# Altium footprint library MLACHT_Z.PCBLIB: 150 footprints (part 1 of 10)
Each footprint in its own frame and in the unit in brackets; x right, y up, seen from the top. Pads: shape width x height; smd on the part's side, far side on the other; paste and mask are expansions set on the pad; w line width, h text height; cw(c..) or ccw(c..) is an arc to the next point about the centre after c.
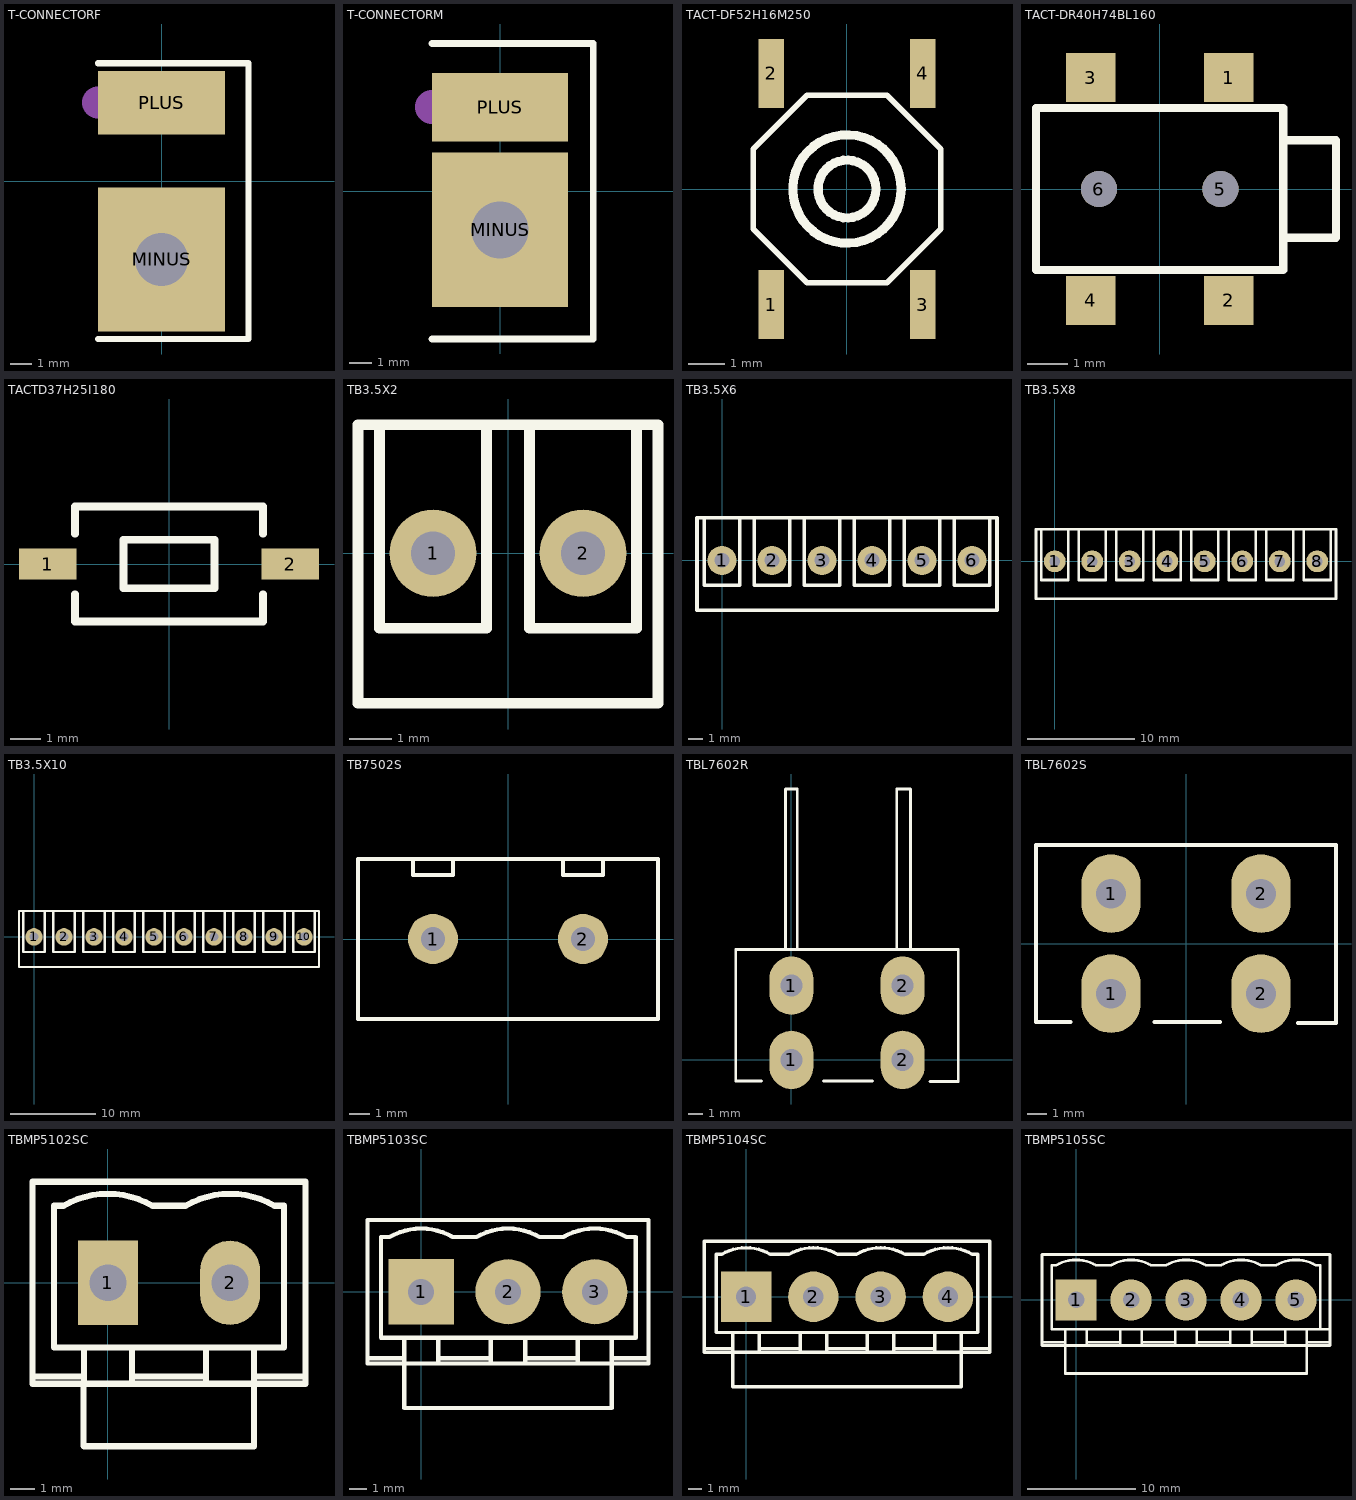
[diagram p0: the footprints below, top view; thin cyan lines are the x and y axes]

## T-CONNECTORF [mm]
pads (2):
  rect 6x6.8 hole 2.5: MINUS(0,-3.7)
  rect 6x3 all layers, no hole: PLUS(0,3.7)
TopOverlay:
  lines w0.3: -3,-7.45 4.1,-7.45 4.1,5.55 -3,5.55
Mill:
  lines w1.5: -3,3.7 0.5,3.7
3D body: height 1.5, standoff 0, extent -12.85,-6.1 2.35,-1.4
3D body: height 4, standoff -2, extent -12.9,3 2.3,4.4
3D body: height 8.2, standoff -4.1, extent -13,-6.5 -3,6.5

## T-CONNECTORM [mm]
pads (2):
  rect 6x6.8 hole 2.5: MINUS(0,-1.7)
  rect 6x3 all layers, no hole: PLUS(0,3.7)
TopOverlay:
  lines w0.3: -3,-6.5 4.1,-6.5 4.1,6.5 -3,6.5
Mill:
  lines w1.5: -3,3.7 0.5,3.7
3D body: height 8.2, standoff -4.1, extent -13.2,-6.5 -3,6.5
3D body: height 4, standoff -2, extent -19.5,3 2.3,4.4
3D body: height 1.5, standoff 0, extent -19.5,-3.8 2.3,0.9

## TACT-DF52H16M250 [mm]
pads (4):
  rect 0.711x1.905 smd: 1(-2.1,-3.2) 2(-2.1,3.2) 3(2.1,-3.2) 4(2.1,3.2)
TopOverlay:
  circle w0.254: c0,0 r1.5
  circle w0.254: c0,0 r0.8
  lines w0.152: -2.6,-1.1 -1.1,-2.6 1.1,-2.6 2.6,-1.1 2.6,1.1 1.1,2.6 -1.1,2.6 -2.6,1.1 -2.6,-1.1

## TACT-DR40H74BL160 [mil]
pads (6):
  rect 48x48 smd: 1(66.93,108.27) 2(66.93,-108.27) 3(-66.93,108.27) 4(-66.93,-108.27)
  round 35 hole 35: 5(59,0) 6(-59,0)
TopOverlay:
  lines w8: 120.08,-47.24 171.26,-47.24 171.26,47.24 120.08,47.24 ; -120.08,-78.74 -120.08,78.74 120.08,78.74 120.08,-78.74 -120.08,-78.74

## TACTD37H25I180 [mm]
pads (2):
  rect 1.9x1.016 smd: 1(-4,0) 2(4,0)
TopOverlay:
  lines w0.254: -3.1,-1 -3.1,-1.9 3.1,-1.9 3.1,-1 ; -3.1,1 -3.1,1.9 3.1,1.9 3.1,1 ; -1.5,-0.8 -1.5,0.8 1.5,0.8 1.5,-0.8 -1.5,-0.8
3D body: height 0.2, standoff 0, extent 3.05,-0.3 4,0.35
3D body: height 0.2, standoff 0, extent -4,-0.3 -3.05,0.35
3D body: height 2, standoff 1, extent -2.3,-1.25 2.3,1.25
3D body: height 1, standoff 0, extent -3.05,-1.85 3.1,1.85
3D body: height 2.5, standoff 0, extent -1.3,-0.6 1.3,0.6
3D body: height 1.1, standoff 1, extent -3.05,-1.85 3.05,1.85

## TB3.5X2 [mil]
pads (2):
  round 80 hole 40: 1(-68.9,0) 2(68.9,0)
TopOverlay:
  lines w10: -118.11,118.11 -118.11,-68.9 -19.68,-68.9 -19.68,118.11 ; 19.68,118.11 19.68,-68.9 118.11,-68.9 118.11,118.11 ; -137.8,-137.8 -137.8,118.11 137.8,118.11 137.8,-137.8 -137.8,-137.8

## TB3.5X6 [mil]
pads (6):
  round 80 hole 40: 1(0,0) 2(137.8,0) 3(275.59,0) 4(413.39,0) 5(551.18,0) 6(688.98,0)
TopOverlay:
  lines w10: -49.21,118.11 -49.21,-68.9 49.21,-68.9 49.21,118.11 ; 88.58,118.11 88.58,-68.9 187.01,-68.9 187.01,118.11 ; 226.38,118.11 226.38,-68.9 324.8,-68.9 324.8,118.11 ; 364.17,118.11 364.17,-68.9 462.6,-68.9 462.6,118.11 ; 501.97,118.11 501.97,-68.9 600.39,-68.9 600.39,118.11 ; 639.76,118.11 639.76,-68.9 738.19,-68.9 738.19,118.11 ; -68.9,-137.8 206.69,-137.8 482.28,-137.8 757.87,-137.8 757.87,118.11 482.28,118.11 206.69,118.11 -68.9,118.11 -68.9,-137.8

## TB3.5X8 [mil]
pads (8):
  round 80 hole 40: 1(0,0) 2(137.8,0) 3(275.59,0) 4(413.39,0) 5(551.18,0) 6(688.98,0) 7(826.77,0) 8(964.57,0)
TopOverlay:
  lines w10: -49.21,118.11 -49.21,-68.9 49.21,-68.9 49.21,118.11 ; 88.58,118.11 88.58,-68.9 187.01,-68.9 187.01,118.11 ; 226.38,118.11 226.38,-68.9 324.8,-68.9 324.8,118.11 ; 364.17,118.11 364.17,-68.9 462.6,-68.9 462.6,118.11 ; 501.97,118.11 501.97,-68.9 600.39,-68.9 600.39,118.11 ; 639.76,118.11 639.76,-68.9 738.19,-68.9 738.19,118.11 ; 777.56,118.11 777.56,-68.9 875.98,-68.9 875.98,118.11 ; 915.35,118.11 915.35,-68.9 1013.78,-68.9 1013.78,118.11 ; -68.9,-137.8 -68.9,118.11 206.69,118.11 482.28,118.11 757.87,118.11 1033.46,118.11 1033.46,-137.8 757.87,-137.8 482.28,-137.8 206.69,-137.8 -68.9,-137.8

## TB3.5X10 [mil]
pads (10):
  round 80 hole 40: 1(0,0) 2(137.8,0) 3(275.59,0) 4(413.39,0) 5(551.18,0) 6(688.98,0) 7(826.77,0) 8(964.57,0) 9(1102.36,0) 10(1240.16,0)
TopOverlay:
  lines w10: -49.21,118.11 -49.21,-68.9 49.21,-68.9 49.21,118.11 ; 88.58,118.11 88.58,-68.9 187.01,-68.9 187.01,118.11 ; 226.38,118.11 226.38,-68.9 324.8,-68.9 324.8,118.11 ; 364.17,118.11 364.17,-68.9 462.6,-68.9 462.6,118.11 ; 501.97,118.11 501.97,-68.9 600.39,-68.9 600.39,118.11 ; 639.76,118.11 639.76,-68.9 738.19,-68.9 738.19,118.11 ; 777.56,118.11 777.56,-68.9 875.98,-68.9 875.98,118.11 ; 915.35,118.11 915.35,-68.9 1013.78,-68.9 1013.78,118.11 ; 1053.15,118.11 1053.15,-68.9 1151.57,-68.9 1151.57,118.11 ; 1190.94,118.11 1190.94,-68.9 1289.37,-68.9 1289.37,118.11 ; -68.9,-137.8 206.69,-137.8 482.28,-137.8 757.87,-137.8 1033.46,-137.8 1309.06,-137.8 1309.06,118.11 1033.46,118.11 757.87,118.11 482.28,118.11 206.69,118.11 -68.9,118.11 -68.9,-137.8

## TB7502S [mm]
pads (2):
  round 2.5 hole 1.2: 1(-3.75,0) 2(3.75,0)
TopOverlay:
  lines w0.203: -4.75,4 -4.75,3.2 -2.75,3.2 -2.75,4 ; 2.75,4 2.75,3.2 4.75,3.2 4.75,4 ; -7.5,-4 7.5,-4 7.5,4 -7.5,4 -7.5,-4
3D body: height 13.2, standoff 0, extent 2.258,-1.5 5.246,1.494
3D body: height 13.2, standoff 0, extent -5.242,-1.5 -2.254,1.494
3D body: height 13.1, standoff 0, extent -7.5,-4 7.5,4

## TBL7602R [mm]
pads (4):
  oval 3x4 hole 1.5: 1(0,0) 1(0,5.08) 2(7.62,0) 2(7.62,5.08)
TopOverlay:
  lines w0.2: -2.05,-1.45 -3.81,-1.45 -3.81,7.55 11.43,7.55 11.43,-1.45 11.43,-1.5 9.5,-1.5 ; -0.4,7.55 -0.4,18.55 0.4,18.55 0.4,7.55 0.45,7.55 ; 2.2,-1.45 5.55,-1.45 ; 7.2,7.55 7.22,7.55 7.22,18.55 8.02,18.55 8.15,18.55 8.15,7.55
3D body: height 10.85, standoff 0, extent -3.81,-1.45 11.43,7.55
3D body: height 8.85, standoff 2, extent -0.4,-1.45 0.4,18.55
3D body: height 8.85, standoff 2, extent 7.22,-1.45 8.02,18.55

## TBL7602S [mm]
pads (4):
  oval 3x4 hole 1.5: 1(-3.81,-2.54) 1(-3.81,2.54) 2(3.81,-2.54) 2(3.81,2.54)
TopOverlay:
  lines w0.2: -5.86,-3.99 -7.62,-3.99 -7.62,5.01 7.62,5.01 7.62,-3.99 7.62,-4.04 5.69,-4.04 ; -3.41,5.01 -3.36,5.01 ; -1.61,-3.99 1.74,-3.99 ; 3.39,5.01 3.41,5.01
3D body: height 10.85, standoff 0, extent -7.62,-3.99 7.62,5.01
3D body: height 21, standoff 0, extent -4.21,-3.5 -3.41,3.6
3D body: height 21, standoff 0, extent 3.41,-3.5 4.21,3.6

## TBMP5102SC [mm]
pads (2):
  rect 2.5x3.5 hole 1.524: 1(0,0)
  oval 2.5x3.5 hole 1.524: 2(5.08,0)
TopOverlay:
  lines w0.254: -3.14,-3.9 -1,-3.9 ; -1.016,-6.784 -1.016,-4.2 ; -1,-6.8 6.08,-6.8 6.08,-4.2 6.08,-2.7 ; -1,-4.2 -1,-2.7 ; 1,-4.2 1,-2.7 ; 1,-3.9 4.08,-3.9 ; 4.08,-4.2 4.08,-2.7 ; 6.08,-3.9 8.22,-3.9 ; -3.14,-4.2 -3.14,4.2 8.22,4.2 8.22,-4.2 -3.14,-4.2 ; -2.24,-2.7 7.32,-2.7 7.32,3.204 6.93,3.204 ccw(c5.08,0) 3.23,3.204 1.85,3.204 ccw(c0,0) -1.85,3.204 -2.24,3.204 -2.24,-2.7
3D body: height 10.4, standoff -3.9, extent 4.58,-0.5 5.58,0.5
3D body: height 10.4, standoff -3.9, extent -0.5,-0.5 0.5,0.5
3D body: height 12, standoff 3, extent 7.32,-2.7 8.22,3.2
3D body: height 12, standoff 3, extent -3.14,-2.7 -2.24,3.204
3D body: height 12, standoff 3, extent -3.14,-3.9 8.22,-2.7
3D body: height 12, standoff 3, extent -3.12,3.2 8.22,4.2
3D body: height 3.5, standoff 0, extent -3.14,-3.9 8.22,4.2

## TBMP5103SC [mil]
pads (3):
  rect 150x150 hole 60: 1(0,0)
  round 150 hole 60: 2(200,0) 3(400,0)
TopOverlay:
  lines w10: -123.62,-153.54 -39.37,-153.54 ; -123.62,165.35 -123.62,-165.35 523.62,-165.35 523.62,165.35 -122.83,165.35 ; -39.37,-106.3 -39.37,-165.35 -39.37,-267.72 439.37,-267.72 439.37,-165.35 439.37,-106.3 ; 39.37,-165.35 39.37,-106.3 ; 39.37,-153.54 160.63,-153.54 ; 160.63,-165.35 160.63,-106.3 ; 239.37,-165.35 239.37,-106.3 ; 239.37,-153.54 360.63,-153.54 ; 360.63,-165.35 360.63,-106.3 ; 439.37,-153.54 523.62,-153.54 ; -92.52,-106.3 -92.52,126.15 -72.83,126.15 cw(c0,0) 72.83,126.15 127.17,126.15 cw(c200,0) 272.83,126.15 327.17,126.15 cw(c400,0) 472.83,126.15 494.09,126.15 494.09,-106.3 -92.52,-106.3
3D body: height 137.8, standoff 0, extent -123.62,-153.54 523.62,165.35
3D body: height 472.44, standoff 118.11, extent -122.83,125.98 523.62,165.35
3D body: height 472.44, standoff 118.11, extent -123.62,-153.54 523.62,-106.3
3D body: height 472.44, standoff 118.11, extent -123.62,-106.3 -88.19,126.15
3D body: height 472.44, standoff 118.11, extent 494.09,-106.3 523.62,125.98
3D body: height 409.45, standoff -153.54, extent -19.68,-19.68 19.68,19.68
3D body: height 409.45, standoff -153.54, extent 180.31,-19.68 219.69,19.68
3D body: height 409.45, standoff -153.54, extent 380.31,-19.68 419.69,19.68

## TBMP5104SC [mil]
pads (4):
  rect 150x150 hole 60: 1(0,0)
  round 150 hole 60: 2(200,0) 3(400,0) 4(600,0)
TopOverlay:
  lines w10: -123.62,-153.54 -39.37,-153.54 ; -123.62,165.35 -123.62,-165.35 723.62,-165.35 723.62,165.35 -122.83,165.35 ; -39.37,-165.98 -39.37,-267.72 639.37,-267.72 639.37,-165.98 ; -39.37,-165.35 -39.37,-106.3 ; 39.37,-165.35 39.37,-106.3 ; 39.37,-153.54 160.63,-153.54 ; 160.63,-165.35 160.63,-106.3 ; 239.37,-165.35 239.37,-106.3 ; 239.37,-153.54 360.63,-153.54 ; 360.63,-165.35 360.63,-106.3 ; 439.37,-165.35 439.37,-106.3 ; 439.37,-153.54 560.63,-153.54 ; 560.63,-165.35 560.63,-106.3 ; 639.37,-165.35 639.37,-106.3 ; 639.37,-153.54 723.62,-153.54 ; -88.19,-106.3 688.19,-106.3 688.19,126.15 672.83,126.15 ccw(c600,0) 527.17,126.15 472.83,126.15 ccw(c400,0) 327.17,126.15 272.83,126.15 ccw(c200,0) 127.17,126.15 72.83,126.15 ccw(c0,0) -72.83,126.15 -88.19,126.15 -88.19,-106.3
3D body: height 137.8, standoff 0, extent -123.62,-153.54 723.62,165.35
3D body: height 472.44, standoff 118.11, extent -122.83,125.98 723.62,165.35
3D body: height 472.44, standoff 118.11, extent -123.62,-153.54 723.62,-106.3
3D body: height 472.44, standoff 118.11, extent -123.62,-106.3 -88.19,126.15
3D body: height 472.44, standoff 118.11, extent 688.19,-106.3 723.62,125.98
3D body: height 409.45, standoff -153.54, extent -19.68,-19.68 19.68,19.68
3D body: height 409.45, standoff -153.54, extent 180.31,-19.68 219.69,19.68
3D body: height 409.45, standoff -153.54, extent 380.31,-19.68 419.69,19.68
3D body: height 409.45, standoff -153.54, extent 580.32,-19.68 619.68,19.68

## TBMP5105SC [mil]
pads (5):
  rect 150x150 hole 60: 1(0,0)
  round 150 hole 60: 2(200,0) 3(400,0) 4(600,0) 5(800,0)
TopOverlay:
  lines w10: -123.62,-153.54 -39.37,-153.54 ; -123.62,165.35 -123.62,-165.35 923.62,-165.35 923.62,165.35 -122.83,165.35 ; -39.37,-165.98 -39.37,-267.72 839.37,-267.72 839.37,-165.98 ; -39.37,-165.35 -39.37,-106.3 ; 39.37,-165.35 39.37,-106.3 ; 39.37,-153.54 160.63,-153.54 ; 160.63,-165.35 160.63,-106.3 ; 239.37,-165.35 239.37,-106.3 ; 239.37,-153.54 360.63,-153.54 ; 360.63,-165.35 360.63,-106.3 ; 439.37,-165.35 439.37,-106.3 ; 439.37,-153.54 560.63,-153.54 ; 560.63,-165.35 560.63,-106.3 ; 639.37,-165.35 639.37,-106.3 ; 639.37,-153.54 760.63,-153.54 ; 760.63,-165.35 760.63,-106.3 ; 839.37,-165.35 839.37,-106.3 ; 839.37,-153.54 923.62,-153.54 ; 888.19,-106.3 888.19,126.15 872.83,126.15 ccw(c800,0) 727.17,126.15 672.83,126.15 ccw(c600,0) 527.17,126.15 472.83,126.15 ccw(c400,0) 327.17,126.15 272.83,126.15 ccw(c200,0) 127.17,126.15 72.83,126.15 ccw(c0,0) -72.83,126.15 -88.19,126.15 -88.19,-106.3 923.62,-106.3
3D body: height 409.45, standoff -153.54, extent 780.32,-19.68 819.68,19.68
3D body: height 409.45, standoff -153.54, extent 580.32,-19.68 619.68,19.68
3D body: height 409.45, standoff -153.54, extent 380.31,-19.68 419.69,19.68
3D body: height 409.45, standoff -153.54, extent 180.31,-19.68 219.69,19.68
3D body: height 409.45, standoff -153.54, extent -19.68,-19.68 19.68,19.68
3D body: height 472.44, standoff 118.11, extent 888.19,-106.3 923.62,125.98
3D body: height 472.44, standoff 118.11, extent -123.62,-106.3 -88.19,126.15
3D body: height 472.44, standoff 118.11, extent -123.62,-153.54 923.62,-106.3
3D body: height 472.44, standoff 118.11, extent -122.83,125.98 923.62,165.35
3D body: height 137.8, standoff 0, extent -123.62,-153.54 923.62,165.35